# Altium footprint library SL_Capacitors_Electrolytic_SMT.PcbLib: 2 footprints
Each footprint in its own frame and in the unit in brackets; x right, y up, seen from the top. Pads: shape width x height; smd on the part's side, far side on the other; paste and mask are expansions set on the pad; w line width, h text height; cw(c..) or ccw(c..) is an arc to the next point about the centre after c.
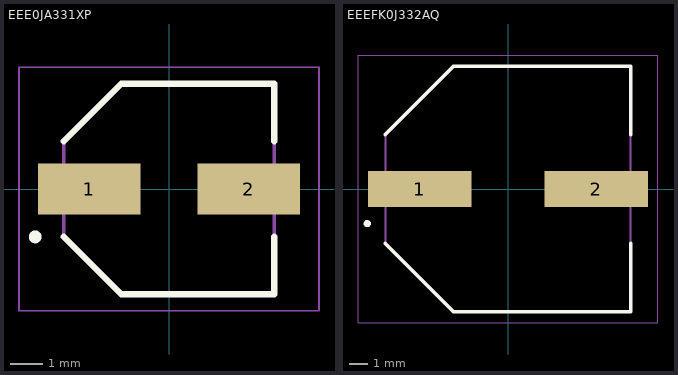
[diagram p0: the footprints below, top view; thin cyan lines are the x and y axes]

## EEE0JA331XP [mm]
pads (2):
  rect 3.2x1.6 smd: 1(-2.5,0) 2(2.5,0)
Top Overlay:
  circle w0.2: c-4.191,-1.5 r0.1
  lines w0.2: -3.3,-1.5 -1.5,-3.3 3.3,-3.3 3.3,-1.5 ; -3.3,1.5 -1.5,3.3 3.3,3.3 3.3,1.5
Mechanical 13:
  lines w0.1: -3.3,1.5 -1.5,3.3 ; -3.3,1.5 -3.3,-1.5 -1.5,-3.3 3.3,-3.3 3.3,3.3 -1.5,3.3 ; -3.3,1.5 -1.5,3.3
Mechanical 15:
  lines w0.05: -4.699,-3.81 -4.699,3.81 4.699,3.81 4.699,-3.81 -4.699,-3.81
3D body "EEEFK1E101XP.stp": height 7.7, standoff 0, extent -3.65,-3.3 3.65,3.3

## EEEFK0J332AQ [mm]
pads (2):
  rect 5.7x2 smd: 1(-4.85,0) 2(4.85,0)
Top Overlay:
  circle w0.2: c-7.747,-1.905 r0.1
  lines w0.2: -6.75,-3 -3,-6.75 6.75,-6.75 6.75,-3 ; -6.75,3 -3,6.75 6.75,6.75 6.75,3
Mechanical 13:
  lines w0.1: -6.75,3 -3,6.75 ; -6.75,3 -6.75,-3 -3,-6.75 6.75,-6.75 6.75,6.75 -3,6.75 ; -6.75,3 -3,6.75
Mechanical 15:
  lines w0.05: -8.255,-7.366 -8.255,7.366 8.255,7.366 8.255,-7.366 -8.255,-7.366
3D body "EEEFK1E102AQ.stp": height 13.5, standoff 0, extent -7.45,-6.75 7.45,6.75